# Altium schematic symbol library cProject.SchLib: 6 symbols
Pins are listed as number, name and electrical type; pins without a type are passive.

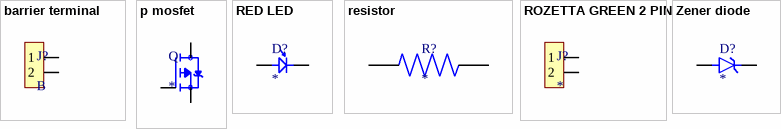
[diagram p0: symbols barrier terminal to Zener diode]

## barrier terminal
designator J?, comment B
1x2P Corner pin Barrier Block 2 1 9.5mm -40℃~+105℃ 32A 750V Black 12~22 Straight pin 4 Plugin,P=9.5mm Barrier Terminal Blocks ROHS; manufacturer: DORABO; manufacturer part number: DBT50G-9.5-2P; supplier: LCSC; supplier part number: C395958
footprint barrier terminal
pins: 1 (power), 2 (power)

## p mosfet
designator Q
P-Channel 100V 38A _Tc_ 3.1W _Ta_, 170W _Tc_ Surface Mount D2PAK; MF: Infineon Technologies; MP: IRF5210; SnapEDA_Link: https://www.snapeda.com/parts/IRF5210/Infineon%20Technologies/view-part/2777330/?ref=snap; Price: None; Value: *; Availability: Unavailable; Package: TO-220 Infineon Technologies
footprint TO254P1054X469X2933-3
pins: 1 G, 2 D, 3 S

## RED LED
designator D?
footprint LED_SSL-LX4673GD-LA20
pins: 1, 2

## resistor
designator R?
Resistor,Metal Film, ERC-55 100K 1% T-2 RNC55H1003FR B14 | Vishay Dale RNC55H1003FRB14; SnapEDA_Link: https://www.snapeda.com/parts/RNC55H1003FRB14/Vishay/view-part/?ref=snap; Package: erc55 Vishay; Value: *; MF: Vishay; MP: RNC55H1003FRB14; Check_prices: https://www.snapeda.com/parts/RNC55H1003FRB14/Vishay/view-part/?ref=eda
footprint RESAD1081W64L635D269
pins: 1, 2

## ROZETTA GREEN 2 PIN
designator J?
footprint ROZETTA 2 PIN
pins: 1 (power), 2 (power)

## Zener diode
designator D?
MP: BZX55B10; Value: *; Availability: Unavailable; Package: None; Price: None
footprint DIOAD928W47L399D179
pins: A, C K